# Altium integrated library STMicroelectronics Power Management DC-DC Conversion.IntLib: 186 symbols (part 2 of 4)
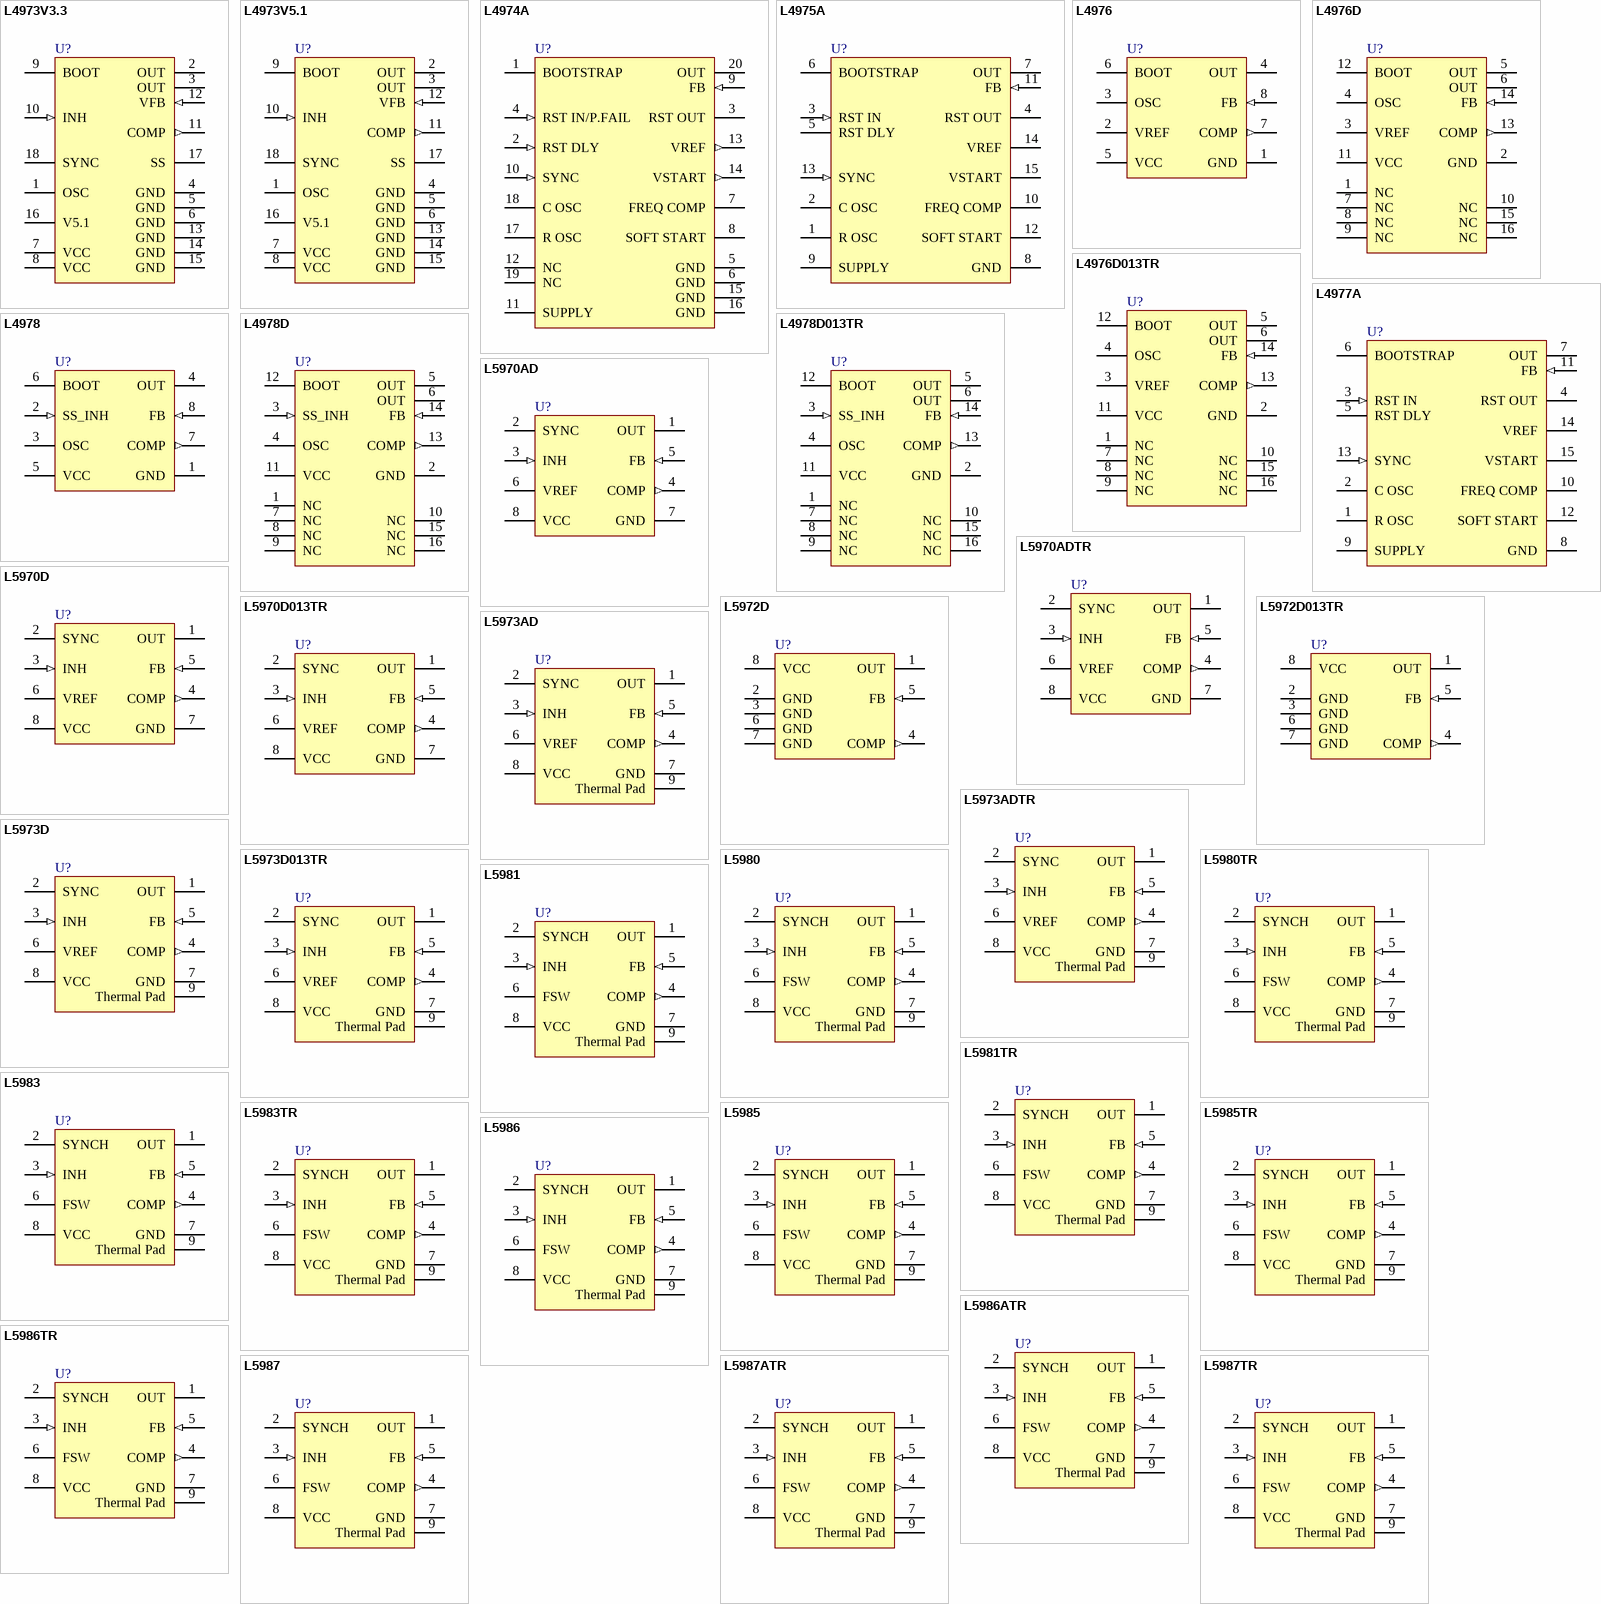
[diagram p8: symbols L4973V3.3 to L5987TR]

## L5985TR
designator U?
Up to 2 A step down switching regulator, 8-Pin VFQFPN, Tape and Reel; DatasheetVersion: Jun-2009; PackageVersion: 2009; PackageReference: VFQFPN8; PackageDescription: 8-Pin VFQFPN, 3 x 3 x 1.08 mm Body, 0.5 mm Pitch, Exposed Pad; ComponentLink1Description: Manufacturer URL; ComponentLink1URL: http://www.st.com; ComponentLink2Description: Datasheet; ComponentLink2URL: http://www.st.com/internet/com/TECHNICAL_RESOURCES/TECHNICAL_LITERATURE/DATASHEET/CD00148435.pdf
footprint VFQFPN8_N (SON, 8-Leads, Body 3x3mm, Pitch 0.5mm, Thermal Pad 2.35x1.6mm, IPC Medium Density)
footprint VFQFPN8_L (SON, 8-Leads, Body 3x3mm, Pitch 0.5mm, Thermal Pad 2.35x1.6mm, IPC High Density)
footprint VFQFPN8_M (SON, 8-Leads, Body 3x3mm, Pitch 0.5mm, Thermal Pad 2.35x1.6mm, IPC Low Density)
pins: 1 OUT (power), 2 SYNCH, 3 INH (in), 4 COMP (out), 5 FB (in), 6 FSW, 7 GND (power), 8 VCC (power), 9 Thermal Pad (power)

## L5986
designator U?
Up to 2.5 A step down switching regulator, 8-Pin VFQFPN, Tube; DatasheetVersion: Nov-2010; PackageVersion: 2009; PackageReference: VFQFPN8; PackageDescription: 8-Pin VFQFPN, 3 x 3 x 1.08 mm Body, 0.5 mm Pitch, Exposed Pad; ComponentLink1Description: Manufacturer URL; ComponentLink1URL: http://www.st.com; ComponentLink2Description: Datasheet; ComponentLink2URL: http://www.st.com/internet/com/TECHNICAL_RESOURCES/TECHNICAL_LITERATURE/DATASHEET/CD00208453.pdf
footprint VFQFPN8_N (SON, 8-Leads, Body 3x3mm, Pitch 0.5mm, Thermal Pad 2.35x1.6mm, IPC Medium Density)
footprint VFQFPN8_L (SON, 8-Leads, Body 3x3mm, Pitch 0.5mm, Thermal Pad 2.35x1.6mm, IPC High Density)
footprint VFQFPN8_M (SON, 8-Leads, Body 3x3mm, Pitch 0.5mm, Thermal Pad 2.35x1.6mm, IPC Low Density)
pins: 1 OUT (power), 2 SYNCH, 3 INH (in), 4 COMP (out), 5 FB (in), 6 FSW, 7 GND (power), 8 VCC (power), 9 Thermal Pad (power)

## L5986ATR
designator U?
Up to 2.5 A step down switching regulator, 8-Pin HSOP, Tape and Reel; DatasheetVersion: Nov-2010; PackageVersion: 2007; PackageReference: HSO-8; PackageDescription: 8-Pin Small Outline Integrated Circuit 1.27 mm Pitch; ComponentLink1Description: Manufacturer URL; ComponentLink1URL: http://www.st.com; ComponentLink2Description: Datasheet; ComponentLink2URL: http://www.st.com/internet/com/TECHNICAL_RESOURCES/TECHNICAL_LITERATURE/DATASHEET/CD00208453.pdf
footprint HSO-8_N (SOIC, 8-Leads, Body 4.9x3.9mm, Pitch 1.27mm, Thermal Pad, IPC Medium Density)
footprint HSO-8_L (SOIC, 8-Leads, Body 4.9x3.9mm, Pitch 1.27mm, Thermal Pad, IPC High Density)
footprint HSO-8_M (SOIC, 8-Leads, Body 4.9x3.9mm, Pitch 1.27mm, Thermal Pad, IPC Low Density)
pins: 1 OUT (power), 2 SYNCH, 3 INH (in), 4 COMP (out), 5 FB (in), 6 FSW, 7 GND (power), 8 VCC (power), 9 Thermal Pad (power)

## L5986TR
designator U?
Up to 2.5 A step down switching regulator, 8-Pin VFQFPN, Tape and Reel; DatasheetVersion: Nov-2010; PackageVersion: 2009; PackageReference: VFQFPN8; PackageDescription: 8-Pin VFQFPN, 3 x 3 x 1.08 mm Body, 0.5 mm Pitch, Exposed Pad; ComponentLink1Description: Manufacturer URL; ComponentLink1URL: http://www.st.com; ComponentLink2Description: Datasheet; ComponentLink2URL: http://www.st.com/internet/com/TECHNICAL_RESOURCES/TECHNICAL_LITERATURE/DATASHEET/CD00208453.pdf
footprint VFQFPN8_N (SON, 8-Leads, Body 3x3mm, Pitch 0.5mm, Thermal Pad 2.35x1.6mm, IPC Medium Density)
footprint VFQFPN8_L (SON, 8-Leads, Body 3x3mm, Pitch 0.5mm, Thermal Pad 2.35x1.6mm, IPC High Density)
footprint VFQFPN8_M (SON, 8-Leads, Body 3x3mm, Pitch 0.5mm, Thermal Pad 2.35x1.6mm, IPC Low Density)
pins: 1 OUT (power), 2 SYNCH, 3 INH (in), 4 COMP (out), 5 FB (in), 6 FSW, 7 GND (power), 8 VCC (power), 9 Thermal Pad (power)

## L5987
designator U?
Up to 3 A step down switching regulator, 8-Pin VFQFPN, Tube; DatasheetVersion: Jun-2009; PackageVersion: 2009; PackageReference: VFQFPN8; PackageDescription: 8-Pin VFQFPN, 3 x 3 x 1.08 mm Body, 0.5 mm Pitch, Exposed Pad; ComponentLink1Description: Manufacturer URL; ComponentLink1URL: http://www.st.com; ComponentLink2Description: Datasheet; ComponentLink2URL: http://www.st.com/internet/com/TECHNICAL_RESOURCES/TECHNICAL_LITERATURE/DATASHEET/CD00208518.pdf
footprint VFQFPN8_N (SON, 8-Leads, Body 3x3mm, Pitch 0.5mm, Thermal Pad 2.35x1.6mm, IPC Medium Density)
footprint VFQFPN8_L (SON, 8-Leads, Body 3x3mm, Pitch 0.5mm, Thermal Pad 2.35x1.6mm, IPC High Density)
footprint VFQFPN8_M (SON, 8-Leads, Body 3x3mm, Pitch 0.5mm, Thermal Pad 2.35x1.6mm, IPC Low Density)
pins: 1 OUT (power), 2 SYNCH, 3 INH (in), 4 COMP (out), 5 FB (in), 6 FSW, 7 GND (power), 8 VCC (power), 9 Thermal Pad (power)

## L5987ATR
designator U?
Up to 3 A step down switching regulator, 8-Pin HSOP, Tape and Reel; DatasheetVersion: Jun-2009; PackageVersion: 2007; PackageReference: HSO-8; PackageDescription: 8-Pin Small Outline Integrated Circuit 1.27 mm Pitch; ComponentLink1Description: Manufacturer URL; ComponentLink1URL: http://www.st.com; ComponentLink2Description: Datasheet; ComponentLink2URL: http://www.st.com/internet/com/TECHNICAL_RESOURCES/TECHNICAL_LITERATURE/DATASHEET/CD00208518.pdf
footprint HSO-8_N (SOIC, 8-Leads, Body 4.9x3.9mm, Pitch 1.27mm, Thermal Pad, IPC Medium Density)
footprint HSO-8_L (SOIC, 8-Leads, Body 4.9x3.9mm, Pitch 1.27mm, Thermal Pad, IPC High Density)
footprint HSO-8_M (SOIC, 8-Leads, Body 4.9x3.9mm, Pitch 1.27mm, Thermal Pad, IPC Low Density)
pins: 1 OUT (power), 2 SYNCH, 3 INH (in), 4 COMP (out), 5 FB (in), 6 FSW, 7 GND (power), 8 VCC (power), 9 Thermal Pad (power)

## L5987TR
designator U?
Up to 3 A step down switching regulator, 8-Pin VFQFPN, Tape and Reel; DatasheetVersion: Jun-2009; PackageVersion: 2009; PackageReference: VFQFPN8; PackageDescription: 8-Pin VFQFPN, 3 x 3 x 1.08 mm Body, 0.5 mm Pitch, Exposed Pad; ComponentLink1Description: Manufacturer URL; ComponentLink1URL: http://www.st.com; ComponentLink2Description: Datasheet; ComponentLink2URL: http://www.st.com/internet/com/TECHNICAL_RESOURCES/TECHNICAL_LITERATURE/DATASHEET/CD00208518.pdf
footprint VFQFPN8_N (SON, 8-Leads, Body 3x3mm, Pitch 0.5mm, Thermal Pad 2.35x1.6mm, IPC Medium Density)
footprint VFQFPN8_L (SON, 8-Leads, Body 3x3mm, Pitch 0.5mm, Thermal Pad 2.35x1.6mm, IPC High Density)
footprint VFQFPN8_M (SON, 8-Leads, Body 3x3mm, Pitch 0.5mm, Thermal Pad 2.35x1.6mm, IPC Low Density)
pins: 1 OUT (power), 2 SYNCH, 3 INH (in), 4 COMP (out), 5 FB (in), 6 FSW, 7 GND (power), 8 VCC (power), 9 Thermal Pad (power)

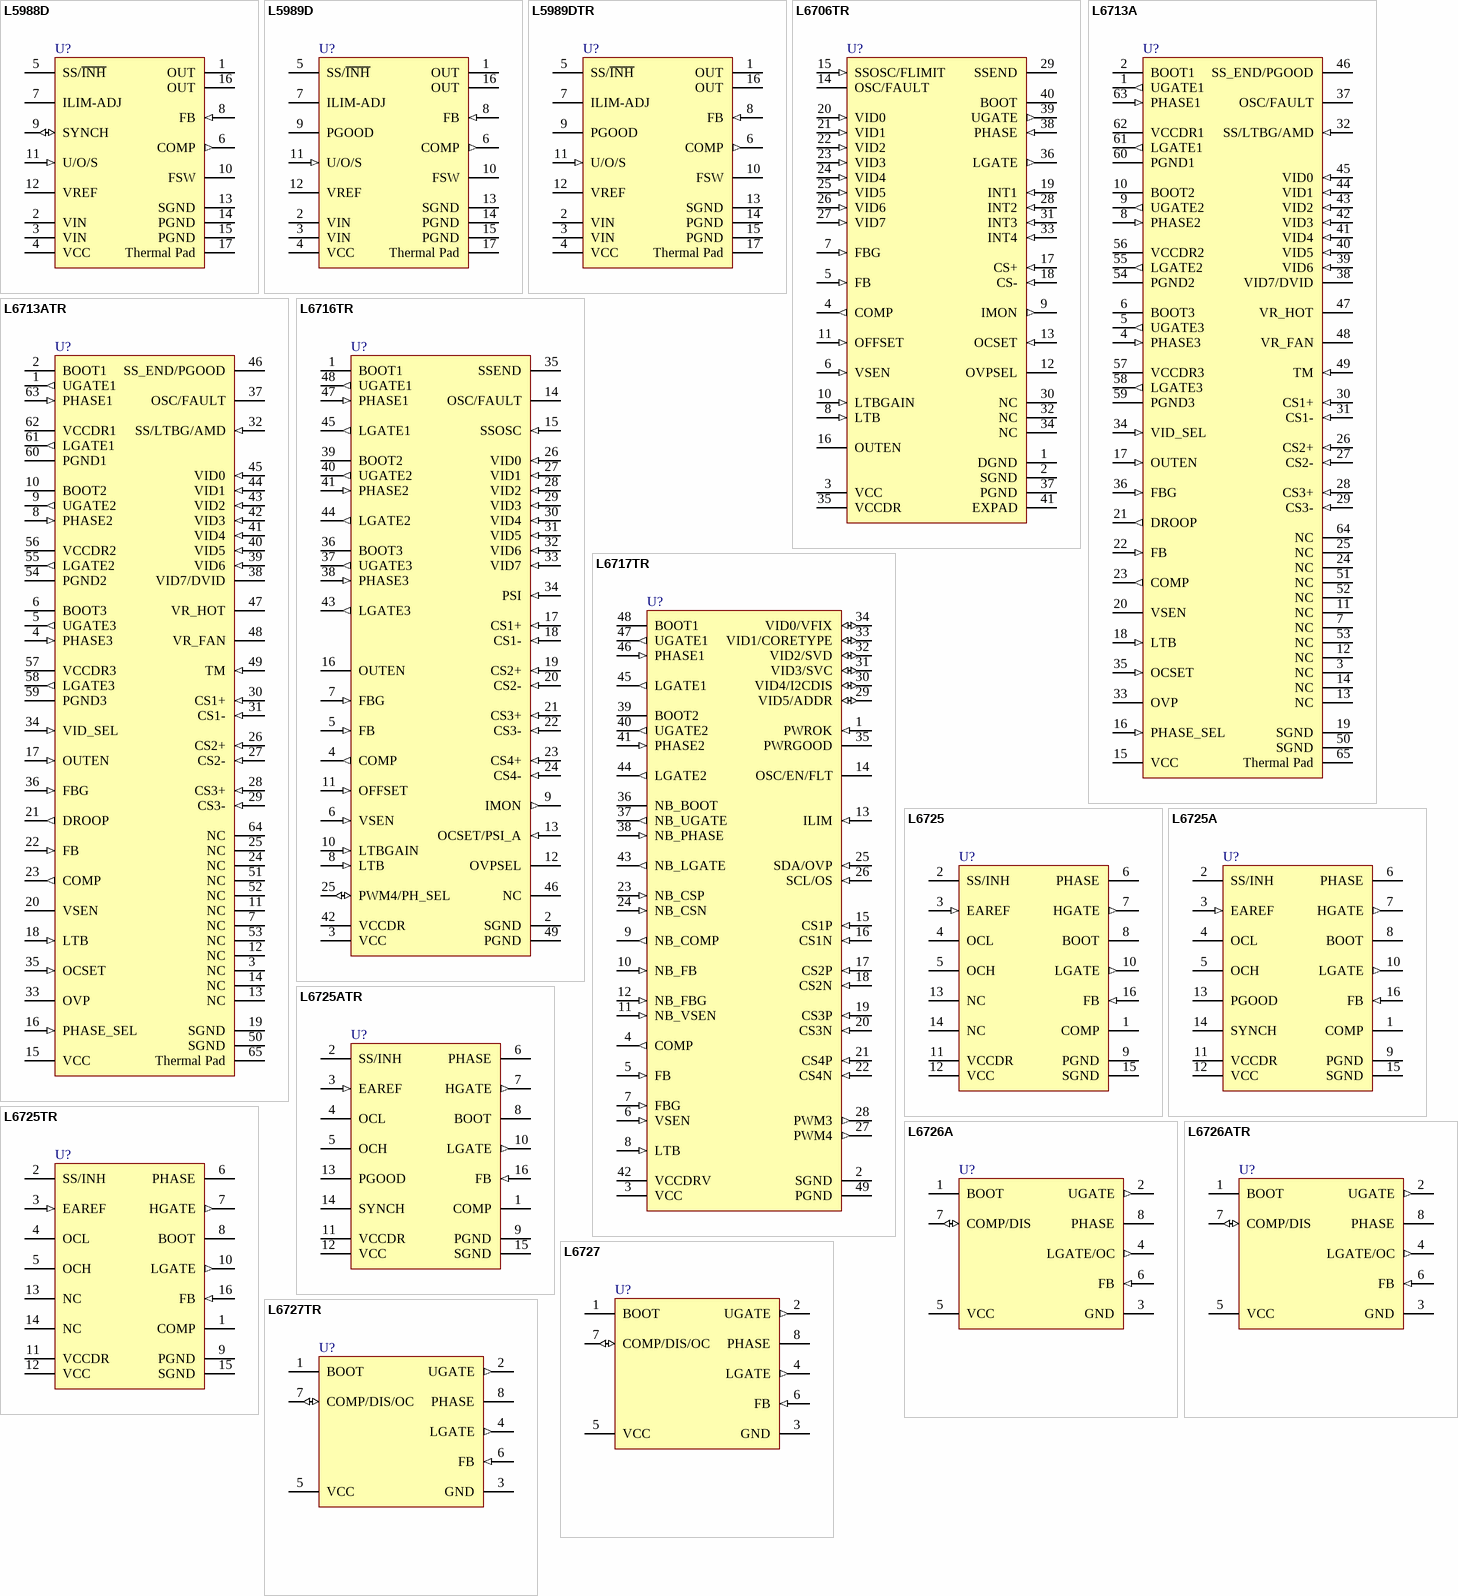
[diagram p2: symbols L5988D to L6727TR]

## L5988D
designator U?
4 A continuous (more than 5 A pulsed) step-down switching regulator with synchronous rectification, 16-Pin HTSSOP; DatasheetVersion: Jan-2010; PackageVersion: 2008; PackageReference: HTSSOP16; PackageDescription: 16-Pin Thin Small Outline Package 5 x 4.4 mm Body ,0.65 mm Pitch, 3 x 3 mm Exposed Pad; ComponentLink1Description: Manufacturer URL; ComponentLink1URL: http://www.st.com; ComponentLink2Description: Datasheet; ComponentLink2URL: http://www.st.com/internet/com/TECHNICAL_RESOURCES/TECHNICAL_LITERATURE/DATASHEET/CD00222887.pdf
footprint HTSSOP16_N (TSOP, 16-Leads, Body 5x4.4mm, Pitch 0.65mm, Thermal Pad 3x3mm, IPC Medium Density)
footprint HTSSOP16_L (TSOP, 16-Leads, Body 5x4.4mm, Pitch 0.65mm, Thermal Pad 3x3mm, IPC High Density)
footprint HTSSOP16_M (TSOP, 16-Leads, Body 5x4.4mm, Pitch 0.65mm, Thermal Pad 3x3mm, IPC Low Density)
pins: 1 OUT (power), 2 VIN (power), 3 VIN (power), 4 VCC (power), 5 SS/~{INH}, 6 COMP (out), 7 ILIM-ADJ, 8 FB (in), 9 SYNCH (io), 10 FSW, 11 U/O/S (in), 12 VREF (power), 13 SGND (power), 14 PGND (power), 15 PGND (power), 16 OUT (power), 17 Thermal Pad (power)

## L5989D
designator U?
4 A continuous (more than 5 A pulsed) step-down switching regulator with synchronous rectification, 16-Pin HTSSOP, Tube; DatasheetVersion: Jan-2010; PackageVersion: 2008; PackageReference: HTSSOP16; PackageDescription: 16-Pin Thin Small Outline Package 5 x 4.4 mm Body ,0.65 mm Pitch, 3 x 3 mm Exposed Pad; ComponentLink1Description: Manufacturer URL; ComponentLink1URL: http://www.st.com; ComponentLink2Description: Datasheet; ComponentLink2URL: http://www.st.com/internet/com/TECHNICAL_RESOURCES/TECHNICAL_LITERATURE/DATASHEET/CD00236726.pdf
footprint HTSSOP16_N (TSOP, 16-Leads, Body 5x4.4mm, Pitch 0.65mm, Thermal Pad 3x3mm, IPC Medium Density)
footprint HTSSOP16_L (TSOP, 16-Leads, Body 5x4.4mm, Pitch 0.65mm, Thermal Pad 3x3mm, IPC High Density)
footprint HTSSOP16_M (TSOP, 16-Leads, Body 5x4.4mm, Pitch 0.65mm, Thermal Pad 3x3mm, IPC Low Density)
pins: 1 OUT (power), 2 VIN (power), 3 VIN (power), 4 VCC (power), 5 SS/~{INH}, 6 COMP (out), 7 ILIM-ADJ, 8 FB (in), 9 PGOOD (oc), 10 FSW, 11 U/O/S (in), 12 VREF (power), 13 SGND (power), 14 PGND (power), 15 PGND (power), 16 OUT (power), 17 Thermal Pad (power)

## L5989DTR
designator U?
4 A continuous (more than 5 A pulsed) step-down switching regulator with synchronous rectification, 16-Pin HTSSOP, Tape and Reel; DatasheetVersion: Jan-2010; PackageVersion: 2008; PackageReference: HTSSOP16; PackageDescription: 16-Pin Thin Small Outline Package 5 x 4.4 mm Body ,0.65 mm Pitch, 3 x 3 mm Exposed Pad; ComponentLink1Description: Manufacturer URL; ComponentLink1URL: http://www.st.com; ComponentLink2Description: Datasheet; ComponentLink2URL: http://www.st.com/internet/com/TECHNICAL_RESOURCES/TECHNICAL_LITERATURE/DATASHEET/CD00236726.pdf
footprint HTSSOP16_N (TSOP, 16-Leads, Body 5x4.4mm, Pitch 0.65mm, Thermal Pad 3x3mm, IPC Medium Density)
footprint HTSSOP16_L (TSOP, 16-Leads, Body 5x4.4mm, Pitch 0.65mm, Thermal Pad 3x3mm, IPC High Density)
footprint HTSSOP16_M (TSOP, 16-Leads, Body 5x4.4mm, Pitch 0.65mm, Thermal Pad 3x3mm, IPC Low Density)
pins: 1 OUT (power), 2 VIN (power), 3 VIN (power), 4 VCC (power), 5 SS/~{INH}, 6 COMP (out), 7 ILIM-ADJ, 8 FB (in), 9 PGOOD (oc), 10 FSW, 11 U/O/S (in), 12 VREF (power), 13 SGND (power), 14 PGND (power), 15 PGND (power), 16 OUT (power), 17 Thermal Pad (power)

## L6706TR
designator U?
VR11.1 single phase controller with integrated driver, 40-Pin VFQFPN, Tape and Reel; DatasheetVersion: Jan-2010; PackageVersion: 2008; PackageReference: VFQFPN-40; PackageDescription: 40-Pin Very Fine Quad Flat Package No-Lead, 6 x 6 x 1 mm Body, 0.5 mm Pitch, Exposed Pad; ComponentLink1Description: Manufacturer URL; ComponentLink1URL: http://www.st.com; ComponentLink2Description: Datasheet; ComponentLink2URL: http://www.st.com/internet/com/TECHNICAL_RESOURCES/TECHNICAL_LITERATURE/DATASHEET/CD00234572.pdf
footprint VFQFPN-40_N (QFN, 40-Leads, Body 6x6mm, Pitch 0.5mm, Thermal Pad 4.1x4.1mm, IPC Medium Density)
footprint VFQFPN-40_L (QFN, 40-Leads, Body 6x6mm, Pitch 0.5mm, Thermal Pad 4.1x4.1mm, IPC High Density)
footprint VFQFPN-40_M (QFN, 40-Leads, Body 6x6mm, Pitch 0.5mm, Thermal Pad 4.1x4.1mm, IPC Low Density)
pins: 1 DGND (power), 2 SGND (power), 3 VCC (power), 4 COMP (out), 5 FB (in), 6 VSEN (in), 7 FBG (in), 8 LTB (in), 9 IMON (out), 10 LTBGAIN (in), 11 OFFSET (in), 12 OVPSEL, 13 OCSET (in), 14 OSC/FAULT, 15 SSOSC/FLIMIT (in), 16 OUTEN, 17 CS+ (in), 18 CS- (in), 19 INT1 (in), 20 VID0 (in), 21 VID1 (in), 22 VID2 (in), 23 VID3 (in), 24 VID4 (in), 25 VID5 (in), 26 VID6 (in), 27 VID7 (in), 28 INT2 (in), 29 SSEND (oc), 30 NC, 31 INT3 (in), 32 NC, 33 INT4 (in), 34 NC, 35 VCCDR (power), 36 LGATE (out), 37 PGND (power), 38 PHASE (in), 39 UGATE (out), 40 BOOT (power), 41 EXPAD (power)

## L6713A
designator U?
2/3 phase controller with embedded drivers for Intel VR10, VR11 and AMD 6 bit CPUs, 64-Pin TQFP, Tube; DatasheetVersion: Aug-2008; PackageVersion: 2008; PackageReference: TQFP64-EP; PackageDescription: 64-Pin Thin Quad Flat Pack, 10 x 10 mm Body, 0.5 mm Pitch, 4.8 x 4.8 mm Exposed Pad; ComponentLink1Description: Manufacturer URL; ComponentLink1URL: http://www.st.com; ComponentLink2Description: Datasheet; ComponentLink2URL: http://www.st.com/internet/com/TECHNICAL_RESOURCES/TECHNICAL_LITERATURE/DATASHEET/CD00095768.pdf
footprint TQFP64-EP_N (Thin QFP, 64-Leads, Body 10x10mm, Pitch 0.5mm, Thermal Pad 4.8x4.8mm, IPC Medium Density)
footprint TQFP64-EP_L (Thin QFP, 64-Leads, Body 10x10mm, Pitch 0.5mm, Thermal Pad 4.8x4.8mm, IPC High Density)
footprint TQFP64-EP_M (Thin QFP, 64-Leads, Body 10x10mm, Pitch 0.5mm, Thermal Pad 4.8x4.8mm, IPC Low Density)
pins: 1 UGATE1 (out), 2 BOOT1 (power), 3 NC, 4 PHASE3 (in), 5 UGATE3 (out), 6 BOOT3 (power), 7 NC, 8 PHASE2 (in), 9 UGATE2 (out), 10 BOOT2 (power), 11 NC, 12 NC, 13 NC, 14 NC, 15 VCC (power), 16 PHASE_SEL (in), 17 OUTEN (in), 18 LTB (in), 19 SGND (power), 20 VSEN, 21 DROOP (out), 22 FB (in), 23 COMP (out), 24 NC, 25 NC, 26 CS2+ (in), 27 CS2- (in), 28 CS3+ (in), 29 CS3- (in), 30 CS1+ (in), 31 CS1- (in), 32 SS/LTBG/AMD (in), 33 OVP, 34 VID_SEL (in), 35 OCSET (in), 36 FBG (in), 37 OSC/FAULT, 38 VID7/DVID, 39 VID6 (in), 40 VID5 (in), 41 VID4 (in), 42 VID3 (in), 43 VID2 (in), 44 VID1 (in), 45 VID0 (in), 46 SS_END/PGOOD (oc), 47 VR_HOT (oc), 48 VR_FAN (oc), 49 TM (in), 50 SGND (power), 51 NC, 52 NC, 53 NC, 54 PGND2 (power), 55 LGATE2 (out), 56 VCCDR2 (power), 57 VCCDR3 (power), 58 LGATE3 (out), 59 PGND3 (power), 60 PGND1 (power), 61 LGATE1 (out), 62 VCCDR1 (power), 63 PHASE1 (in), 64 NC, 65 Thermal Pad (power)

## L6713ATR
designator U?
2/3 phase controller with embedded drivers for Intel VR10, VR11 and AMD 6 bit CPUs, 64-Pin TQFP, Tape and Reel; DatasheetVersion: Aug-2008; PackageVersion: 2008; PackageReference: TQFP64-EP; PackageDescription: 64-Pin Thin Quad Flat Pack, 10 x 10 mm Body, 0.5 mm Pitch, 4.8 x 4.8 mm Exposed Pad; ComponentLink1Description: Manufacturer URL; ComponentLink1URL: http://www.st.com; ComponentLink2Description: Datasheet; ComponentLink2URL: http://www.st.com/internet/com/TECHNICAL_RESOURCES/TECHNICAL_LITERATURE/DATASHEET/CD00095768.pdf
footprint TQFP64-EP_N (Thin QFP, 64-Leads, Body 10x10mm, Pitch 0.5mm, Thermal Pad 4.8x4.8mm, IPC Medium Density)
footprint TQFP64-EP_L (Thin QFP, 64-Leads, Body 10x10mm, Pitch 0.5mm, Thermal Pad 4.8x4.8mm, IPC High Density)
footprint TQFP64-EP_M (Thin QFP, 64-Leads, Body 10x10mm, Pitch 0.5mm, Thermal Pad 4.8x4.8mm, IPC Low Density)
pins: 1 UGATE1 (out), 2 BOOT1 (power), 3 NC, 4 PHASE3 (in), 5 UGATE3 (out), 6 BOOT3 (power), 7 NC, 8 PHASE2 (in), 9 UGATE2 (out), 10 BOOT2 (power), 11 NC, 12 NC, 13 NC, 14 NC, 15 VCC (power), 16 PHASE_SEL (in), 17 OUTEN (in), 18 LTB (in), 19 SGND (power), 20 VSEN, 21 DROOP (out), 22 FB (in), 23 COMP (out), 24 NC, 25 NC, 26 CS2+ (in), 27 CS2- (in), 28 CS3+ (in), 29 CS3- (in), 30 CS1+ (in), 31 CS1- (in), 32 SS/LTBG/AMD (in), 33 OVP, 34 VID_SEL (in), 35 OCSET (in), 36 FBG (in), 37 OSC/FAULT, 38 VID7/DVID, 39 VID6 (in), 40 VID5 (in), 41 VID4 (in), 42 VID3 (in), 43 VID2 (in), 44 VID1 (in), 45 VID0 (in), 46 SS_END/PGOOD (oc), 47 VR_HOT (oc), 48 VR_FAN (oc), 49 TM (in), 50 SGND (power), 51 NC, 52 NC, 53 NC, 54 PGND2 (power), 55 LGATE2 (out), 56 VCCDR2 (power), 57 VCCDR3 (power), 58 LGATE3 (out), 59 PGND3 (power), 60 PGND1 (power), 61 LGATE1 (out), 62 VCCDR1 (power), 63 PHASE1 (in), 64 NC, 65 Thermal Pad (power)

## L6716TR
designator U?
2/3/4 phase controller with embedded drivers for Intel VR11.1, 48-Pin VFQFPN, Tape and Reel; DatasheetVersion: Jan-2010; PackageVersion: 2010; PackageReference: VFQFPN-48(7x7); PackageDescription: 48-Pin Very Fine Quad Flat Package No-Lead, 7 x 7 x 1 mm Body, 0.5 mm Pitch, Exposed Pad; ComponentLink1Description: Manufacturer URL; ComponentLink1URL: http://www.st.com; ComponentLink2Description: Datasheet; ComponentLink2URL: http://www.st.com/internet/com/TECHNICAL_RESOURCES/TECHNICAL_LITERATURE/DATASHEET/CD00187614.pdf
footprint VFQFPN-48(7x7)_N (QFN, 48-Leads, Body 7x7mm, Pitch 0.5mm, Thermal Pad 5.15x5.15mm, IPC Medium Density)
footprint VFQFPN-48(7x7)_L (QFN, 48-Leads, Body 7x7mm, Pitch 0.5mm, Thermal Pad 5.15x5.15mm, IPC High Density)
footprint VFQFPN-48(7x7)_M (QFN, 48-Leads, Body 7x7mm, Pitch 0.5mm, Thermal Pad 5.15x5.15mm, IPC Low Density)
pins: 1 BOOT1 (power), 2 SGND (power), 3 VCC (power), 4 COMP (out), 5 FB (in), 6 VSEN (in), 7 FBG (in), 8 LTB (in), 9 IMON (out), 10 LTBGAIN (in), 11 OFFSET (in), 12 OVPSEL, 13 OCSET/PSI_A (in), 14 OSC/FAULT, 15 SSOSC (in), 16 OUTEN, 17 CS1+ (in), 18 CS1- (in), 19 CS2+ (in), 20 CS2- (in), 21 CS3+ (in), 22 CS3- (in), 23 CS4+ (in), 24 CS4- (in), 25 PWM4/PH_SEL (io), 26 VID0 (in), 27 VID1 (in), 28 VID2 (in), 29 VID3 (in), 30 VID4 (in), 31 VID5 (in), 32 VID6 (in), 33 VID7 (in), 34 PSI (in), 35 SSEND (oc), 36 BOOT3 (power), 37 UGATE3 (out), 38 PHASE3 (in), 39 BOOT2 (power), 40 UGATE2 (out), 41 PHASE2 (in), 42 VCCDR (power), 43 LGATE3 (out), 44 LGATE2 (out), 45 LGATE1 (out), 46 NC, 47 PHASE1 (in), 48 UGATE1 (out), 49 PGND (power)

## L6717TR
designator U?
High-Efficiency Hybrid AM2r2 Controller with I2C Interface and Embedded Drivers, 48-Pin VFQFPN, Tape and Reel; DatasheetVersion: Mar-2010; PackageVersion: 2010; PackageReference: VFQFPN-48(7x7); PackageDescription: 48-Pin Very Fine Quad Flat Package No-Lead, 7 x 7 x 1 mm Body, 0.5 mm Pitch, Exposed Pad; ComponentLink1Description: Manufacturer URL; ComponentLink1URL: http://www.st.com; ComponentLink2Description: Datasheet; ComponentLink2URL: http://www.st.com/internet/com/TECHNICAL_RESOURCES/TECHNICAL_LITERATURE/DATASHEET/CD00269198.pdf
footprint VFQFPN-48(7x7)_N (QFN, 48-Leads, Body 7x7mm, Pitch 0.5mm, Thermal Pad 5.15x5.15mm, IPC Medium Density)
footprint VFQFPN-48(7x7)_L (QFN, 48-Leads, Body 7x7mm, Pitch 0.5mm, Thermal Pad 5.15x5.15mm, IPC High Density)
footprint VFQFPN-48(7x7)_M (QFN, 48-Leads, Body 7x7mm, Pitch 0.5mm, Thermal Pad 5.15x5.15mm, IPC Low Density)
pins: 1 PWROK (in), 2 SGND (power), 3 VCC (power), 4 COMP (out), 5 FB (in), 6 VSEN (in), 7 FBG (in), 8 LTB (in), 9 NB_COMP (out), 10 NB_FB (in), 11 NB_VSEN (in), 12 NB_FBG (in), 13 ILIM (in), 14 OSC/EN/FLT, 15 CS1P (in), 16 CS1N (in), 17 CS2P (in), 18 CS2N (in), 19 CS3P (in), 20 CS3N (in), 21 CS4P (in), 22 CS4N (in), 23 NB_CSP (in), 24 NB_CSN (in), 25 SDA/OVP (in), 26 SCL/OS (in), 27 PWM4 (out), 28 PWM3 (out), 29 VID5/ADDR (io), 30 VID4/I2CDIS (io), 31 VID3/SVC (io), 32 VID2/SVD (io), 33 VID1/CORETYPE (io), 34 VID0/VFIX (io), 35 PWRGOOD (oc), 36 NB_BOOT (power), 37 NB_UGATE (out), 38 NB_PHASE (in), 39 BOOT2 (power), 40 UGATE2 (out), 41 PHASE2 (in), 42 VCCDRV (power), 43 NB_LGATE (out), 44 LGATE2 (out), 45 LGATE1 (out), 46 PHASE1 (in), 47 UGATE1 (out), 48 BOOT1 (power), 49 PGND (power)

## L6725
designator U?
Voltage mode PWM controller with bootstrap anti-discharging system, 16-Pin SOIC; DatasheetVersion: Jun-2007; PackageVersion: ver2.0, 2003; PackageReference: SO16; PackageDescription: 16-Pin Small Outline Integrated Circuit 1.27 mm Pitch; Code_IPC: SOIC127P600-16; ComponentLink1Description: Manufacturer URL; ComponentLink1URL: http://www.st.com; ComponentLink2Description: Datasheet; ComponentLink2URL: http://www.st.com/internet/com/TECHNICAL_RESOURCES/TECHNICAL_LITERATURE/DATASHEET/CD00081296.pdf
footprint SO16_N (SOIC, 16-Leads, Body 9.9x3.9mm, Pitch 1.27mm, IPC Medium Density)
footprint SO16_L (SOIC, 16-Leads, Body 9.9x3.9mm, Pitch 1.27mm, IPC High Density)
footprint SO16_M (SOIC, 16-Leads, Body 9.9x3.9mm, Pitch 1.27mm, IPC Low Density)
pins: 1 COMP, 2 SS/INH, 3 EAREF (in), 4 OCL, 5 OCH, 6 PHASE, 7 HGATE (out), 8 BOOT, 9 PGND (power), 10 LGATE (out), 11 VCCDR (power), 12 VCC (power), 13 NC, 14 NC, 15 SGND (power), 16 FB (in)

## L6725A
designator U?
Voltage mode PWM controller with bootstrap anti-discharging system, 16-Pin SOIC; DatasheetVersion: Jun-2007; PackageVersion: ver2.0, 2003; PackageReference: SO16; PackageDescription: 16-Pin Small Outline Integrated Circuit 1.27 mm Pitch; Code_IPC: SOIC127P600-16; ComponentLink1Description: Manufacturer URL; ComponentLink1URL: http://www.st.com; ComponentLink2Description: Datasheet; ComponentLink2URL: http://www.st.com/internet/com/TECHNICAL_RESOURCES/TECHNICAL_LITERATURE/DATASHEET/CD00081296.pdf
footprint SO16_N (SOIC, 16-Leads, Body 9.9x3.9mm, Pitch 1.27mm, IPC Medium Density)
footprint SO16_L (SOIC, 16-Leads, Body 9.9x3.9mm, Pitch 1.27mm, IPC High Density)
footprint SO16_M (SOIC, 16-Leads, Body 9.9x3.9mm, Pitch 1.27mm, IPC Low Density)
pins: 1 COMP, 2 SS/INH, 3 EAREF (in), 4 OCL, 5 OCH, 6 PHASE, 7 HGATE (out), 8 BOOT, 9 PGND (power), 10 LGATE (out), 11 VCCDR (power), 12 VCC (power), 13 PGOOD (oc), 14 SYNCH, 15 SGND (power), 16 FB (in)

## L6725ATR
designator U?
Voltage mode PWM controller with bootstrap anti-discharging system, 16-Pin SOIC, Tape and Reel; DatasheetVersion: Jun-2007; PackageVersion: ver2.0, 2003; PackageReference: SO16; PackageDescription: 16-Pin Small Outline Integrated Circuit 1.27 mm Pitch; Code_IPC: SOIC127P600-16; ComponentLink1Description: Manufacturer URL; ComponentLink1URL: http://www.st.com; ComponentLink2Description: Datasheet; ComponentLink2URL: http://www.st.com/internet/com/TECHNICAL_RESOURCES/TECHNICAL_LITERATURE/DATASHEET/CD00081296.pdf
footprint SO16_N (SOIC, 16-Leads, Body 9.9x3.9mm, Pitch 1.27mm, IPC Medium Density)
footprint SO16_L (SOIC, 16-Leads, Body 9.9x3.9mm, Pitch 1.27mm, IPC High Density)
footprint SO16_M (SOIC, 16-Leads, Body 9.9x3.9mm, Pitch 1.27mm, IPC Low Density)
pins: 1 COMP, 2 SS/INH, 3 EAREF (in), 4 OCL, 5 OCH, 6 PHASE, 7 HGATE (out), 8 BOOT, 9 PGND (power), 10 LGATE (out), 11 VCCDR (power), 12 VCC (power), 13 PGOOD (oc), 14 SYNCH, 15 SGND (power), 16 FB (in)

## L6725TR
designator U?
Voltage mode PWM controller with bootstrap anti-discharging system, 16-Pin SOIC, Tape and Reel; DatasheetVersion: Jun-2007; PackageVersion: ver2.0, 2003; PackageReference: SO16; PackageDescription: 16-Pin Small Outline Integrated Circuit 1.27 mm Pitch; Code_IPC: SOIC127P600-16; ComponentLink1Description: Manufacturer URL; ComponentLink1URL: http://www.st.com; ComponentLink2Description: Datasheet; ComponentLink2URL: http://www.st.com/internet/com/TECHNICAL_RESOURCES/TECHNICAL_LITERATURE/DATASHEET/CD00081296.pdf
footprint SO16_N (SOIC, 16-Leads, Body 9.9x3.9mm, Pitch 1.27mm, IPC Medium Density)
footprint SO16_L (SOIC, 16-Leads, Body 9.9x3.9mm, Pitch 1.27mm, IPC High Density)
footprint SO16_M (SOIC, 16-Leads, Body 9.9x3.9mm, Pitch 1.27mm, IPC Low Density)
pins: 1 COMP, 2 SS/INH, 3 EAREF (in), 4 OCL, 5 OCH, 6 PHASE, 7 HGATE (out), 8 BOOT, 9 PGND (power), 10 LGATE (out), 11 VCCDR (power), 12 VCC (power), 13 NC, 14 NC, 15 SGND (power), 16 FB (in)

## L6726A
designator U?
Single phase PWM controller, 8-Pin SO, Tube; DatasheetVersion: Mar-2010; PackageVersion: Dec-2002; PackageReference: SO8; PackageDescription: 8-Pin Small Outline Integrated Circuit 1.27 mm Pitch; Code_JEDEC: MS-012-AA; Code_IPC: SOIC127P600-8; ComponentLink1Description: Manufacturer URL; ComponentLink1URL: http://www.st.com; ComponentLink2Description: Datasheet; ComponentLink2URL: http://www.st.com/internet/com/TECHNICAL_RESOURCES/TECHNICAL_LITERATURE/DATASHEET/CD00142627.pdf; ComponentLink3Description: Package Specification; ComponentLink3URL: http://www.st.com/internet/com/TECHNICAL_RESOURCES/TECHNICAL_LITERATURE/PACKAGE_INFORMATION/CD00004680.pdf
footprint SO8_N (SOIC, 8-Leads, Body 4.9x3.9mm, Pitch 1.27mm, IPC Medium Density)
footprint SO8_L (SOIC, 8-Leads, Body 4.9x3.9mm, Pitch 1.27mm, IPC High Density)
footprint SO8_M (SOIC, 8-Leads, Body 4.9x3.9mm, Pitch 1.27mm, IPC Low Density)
pins: 1 BOOT (power), 2 UGATE (out), 3 GND (power), 4 LGATE/OC (out), 5 VCC (power), 6 FB (in), 7 COMP/DIS (io), 8 PHASE

## L6726ATR
designator U?
Single phase PWM controller, 8-Pin SO, Tape and Reel; DatasheetVersion: Mar-2010; PackageVersion: Dec-2002; PackageReference: SO8; PackageDescription: 8-Pin Small Outline Integrated Circuit 1.27 mm Pitch; Code_JEDEC: MS-012-AA; Code_IPC: SOIC127P600-8; ComponentLink1Description: Manufacturer URL; ComponentLink1URL: http://www.st.com; ComponentLink2Description: Datasheet; ComponentLink2URL: http://www.st.com/internet/com/TECHNICAL_RESOURCES/TECHNICAL_LITERATURE/DATASHEET/CD00142627.pdf; ComponentLink3Description: Package Specification; ComponentLink3URL: http://www.st.com/internet/com/TECHNICAL_RESOURCES/TECHNICAL_LITERATURE/PACKAGE_INFORMATION/CD00004680.pdf
footprint SO8_N (SOIC, 8-Leads, Body 4.9x3.9mm, Pitch 1.27mm, IPC Medium Density)
footprint SO8_L (SOIC, 8-Leads, Body 4.9x3.9mm, Pitch 1.27mm, IPC High Density)
footprint SO8_M (SOIC, 8-Leads, Body 4.9x3.9mm, Pitch 1.27mm, IPC Low Density)
pins: 1 BOOT (power), 2 UGATE (out), 3 GND (power), 4 LGATE/OC (out), 5 VCC (power), 6 FB (in), 7 COMP/DIS (io), 8 PHASE

## L6727
designator U?
Single phase PWM controller, 8-Pin SO, Tube; DatasheetVersion: Mar-2010; PackageVersion: Dec-2002; PackageReference: SO8; PackageDescription: 8-Pin Small Outline Integrated Circuit 1.27 mm Pitch; Code_JEDEC: MS-012-AA; Code_IPC: SOIC127P600-8; ComponentLink1Description: Manufacturer URL; ComponentLink1URL: http://www.st.com; ComponentLink2Description: Datasheet; ComponentLink2URL: http://www.st.com/internet/com/TECHNICAL_RESOURCES/TECHNICAL_LITERATURE/DATASHEET/CD00146912.pdf; ComponentLink3Description: Package Specification; ComponentLink3URL: http://www.st.com/internet/com/TECHNICAL_RESOURCES/TECHNICAL_LITERATURE/PACKAGE_INFORMATION/CD00004680.pdf
footprint SO8_N (SOIC, 8-Leads, Body 4.9x3.9mm, Pitch 1.27mm, IPC Medium Density)
footprint SO8_L (SOIC, 8-Leads, Body 4.9x3.9mm, Pitch 1.27mm, IPC High Density)
footprint SO8_M (SOIC, 8-Leads, Body 4.9x3.9mm, Pitch 1.27mm, IPC Low Density)
pins: 1 BOOT (power), 2 UGATE (out), 3 GND (power), 4 LGATE (out), 5 VCC (power), 6 FB (in), 7 COMP/DIS/OC (io), 8 PHASE

## L6727TR
designator U?
Single phase PWM controller, 8-Pin SO, Tape and Reel; DatasheetVersion: Mar-2010; PackageVersion: Dec-2002; PackageReference: SO8; PackageDescription: 8-Pin Small Outline Integrated Circuit 1.27 mm Pitch; Code_JEDEC: MS-012-AA; Code_IPC: SOIC127P600-8; ComponentLink1Description: Manufacturer URL; ComponentLink1URL: http://www.st.com; ComponentLink2Description: Datasheet; ComponentLink2URL: http://www.st.com/internet/com/TECHNICAL_RESOURCES/TECHNICAL_LITERATURE/DATASHEET/CD00146912.pdf; ComponentLink3Description: Package Specification; ComponentLink3URL: http://www.st.com/internet/com/TECHNICAL_RESOURCES/TECHNICAL_LITERATURE/PACKAGE_INFORMATION/CD00004680.pdf
footprint SO8_N (SOIC, 8-Leads, Body 4.9x3.9mm, Pitch 1.27mm, IPC Medium Density)
footprint SO8_L (SOIC, 8-Leads, Body 4.9x3.9mm, Pitch 1.27mm, IPC High Density)
footprint SO8_M (SOIC, 8-Leads, Body 4.9x3.9mm, Pitch 1.27mm, IPC Low Density)
pins: 1 BOOT (power), 2 UGATE (out), 3 GND (power), 4 LGATE (out), 5 VCC (power), 6 FB (in), 7 COMP/DIS/OC (io), 8 PHASE

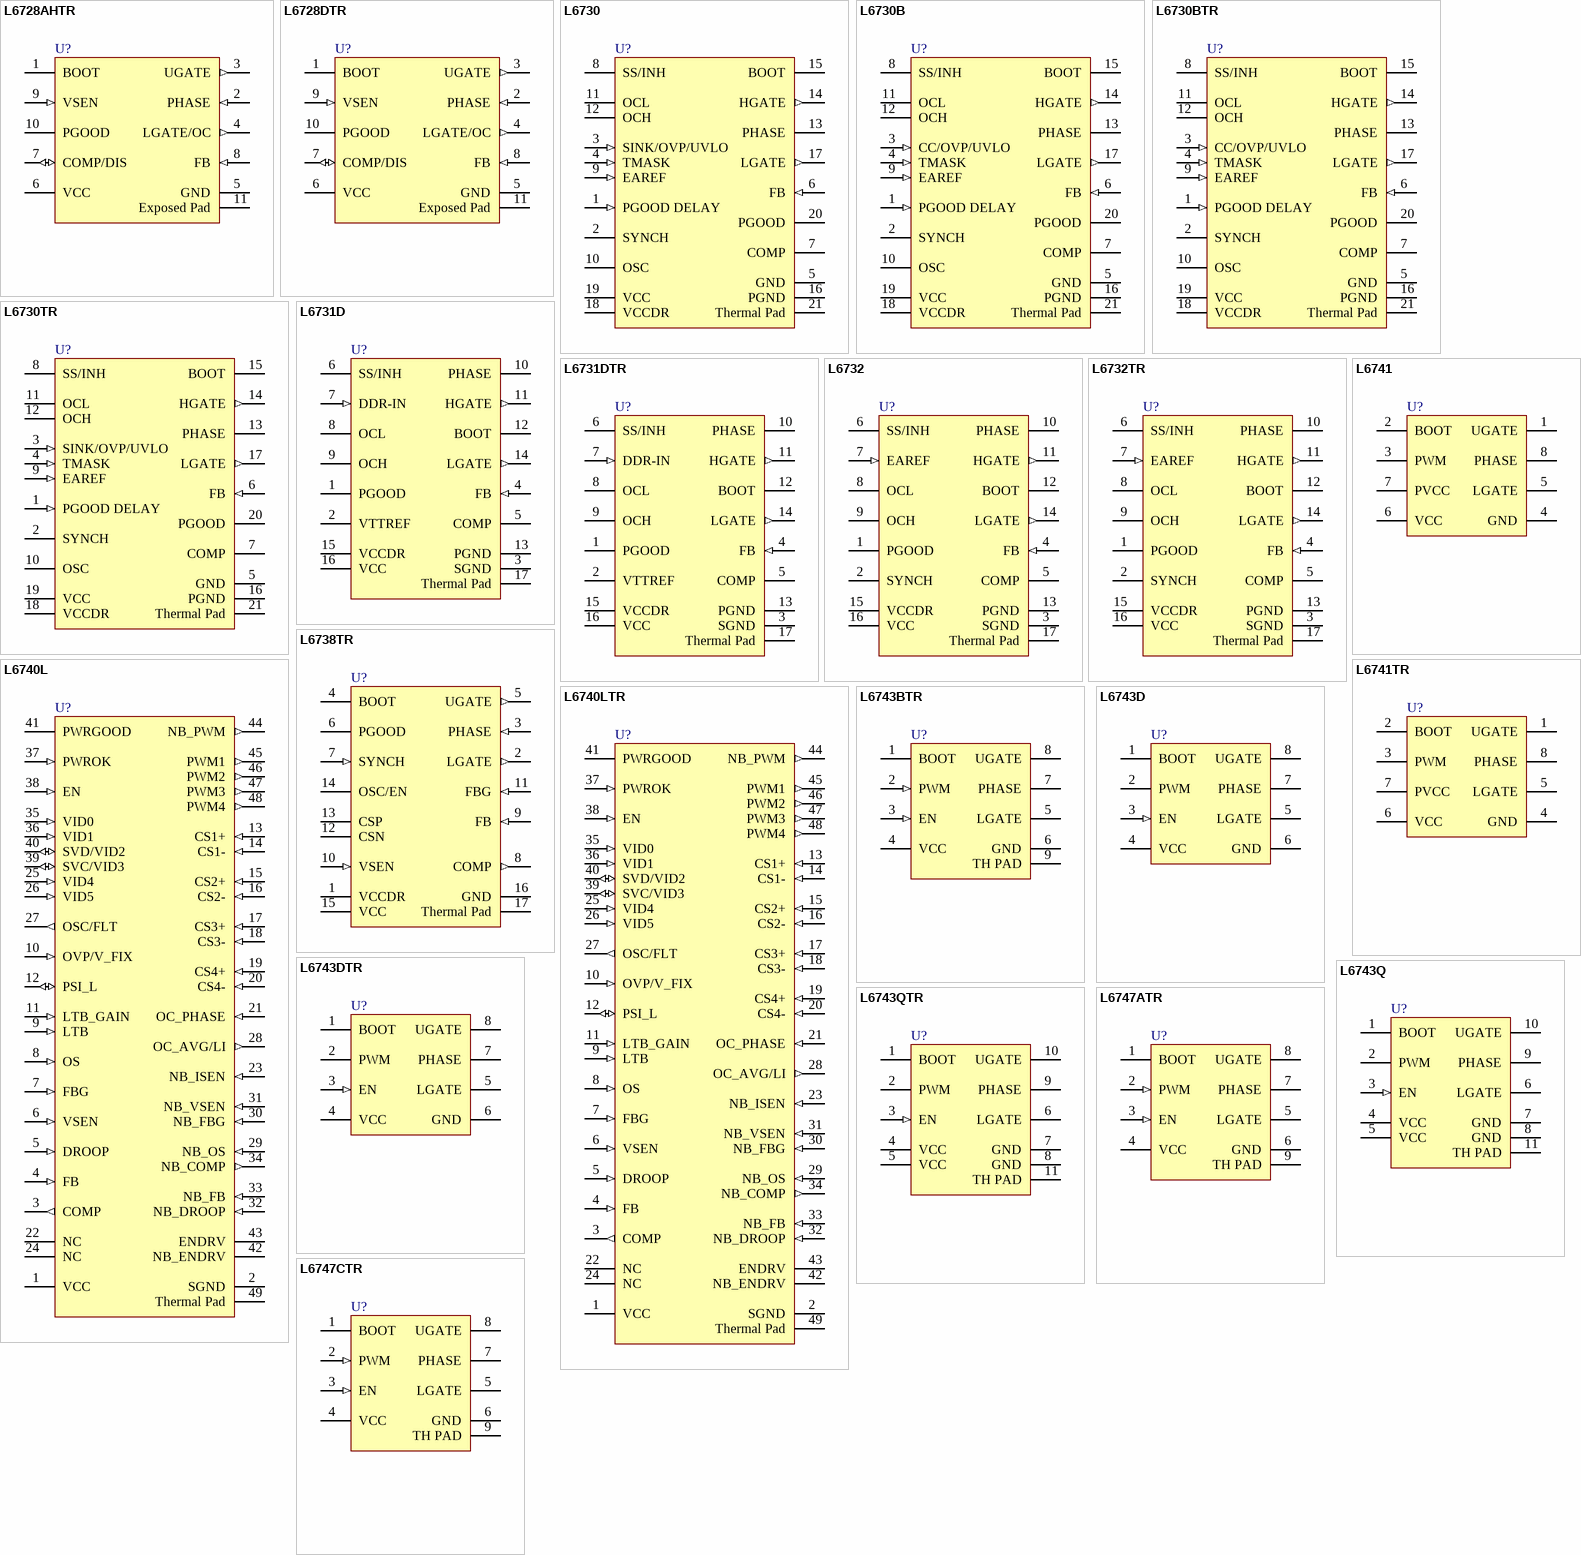
[diagram p3: symbols L6728AHTR to L6747CTR]

## L6728AHTR
designator U?
High frequency single phase PWM controller with Power Good, 10-Pin VFDFPN, Tape and Reel; DatasheetVersion: May-2009; PackageVersion: 2008; PackageReference: DFN10; PackageDescription: 10-Pin DFN, 3 x 3 x 1 mm Body, 0.5 mm Pitch, Exposed Pad; ComponentLink1Description: Manufacturer URL; ComponentLink1URL: http://www.st.com; ComponentLink2Description: Datasheet; ComponentLink2URL: http://www.st.com/internet/com/TECHNICAL_RESOURCES/TECHNICAL_LITERATURE/DATASHEET/CD00235573.pdf
footprint DFN10_N (SON, 10-Leads, Body 3x3mm, Pitch 0.5mm, Thermal Pad 2.25x1.65mm, IPC Medium Density)
footprint DFN10_L (SON, 10-Leads, Body 3x3mm, Pitch 0.5mm, Thermal Pad 2.25x1.65mm, IPC High Density)
footprint DFN10_M (SON, 10-Leads, Body 3x3mm, Pitch 0.5mm, Thermal Pad 2.25x1.65mm, IPC Low Density)
pins: 1 BOOT (power), 2 PHASE (in), 3 UGATE (out), 4 LGATE/OC (out), 5 GND (power), 6 VCC (power), 7 COMP/DIS (io), 8 FB (in), 9 VSEN (in), 10 PGOOD (oc), 11 Exposed Pad (power)

## L6728DTR
designator U?
Single phase PWM controller with Power Good, 10-Pin DFN, Tape and Reel; DatasheetVersion: Feb-2010; PackageVersion: 2008; PackageReference: DFN10; PackageDescription: 10-Pin DFN, 3 x 3 x 1 mm Body, 0.5 mm Pitch, Exposed Pad; ComponentLink1Description: Manufacturer URL; ComponentLink1URL: http://www.st.com; ComponentLink2Description: Datasheet; ComponentLink2URL: http://www.st.com/internet/com/TECHNICAL_RESOURCES/TECHNICAL_LITERATURE/DATASHEET/CD00252832.pdf
footprint DFN10_N (SON, 10-Leads, Body 3x3mm, Pitch 0.5mm, Thermal Pad 2.25x1.65mm, IPC Medium Density)
footprint DFN10_L (SON, 10-Leads, Body 3x3mm, Pitch 0.5mm, Thermal Pad 2.25x1.65mm, IPC High Density)
footprint DFN10_M (SON, 10-Leads, Body 3x3mm, Pitch 0.5mm, Thermal Pad 2.25x1.65mm, IPC Low Density)
pins: 1 BOOT (power), 2 PHASE (in), 3 UGATE (out), 4 LGATE/OC (out), 5 GND (power), 6 VCC (power), 7 COMP/DIS (io), 8 FB (in), 9 VSEN (in), 10 PGOOD (oc), 11 Exposed Pad (power)

## L6730
designator U?
Adjustable step-down controller with synchronous rectification, 20-Pin HTSSOP, Tube; DatasheetVersion: Dec-2009; PackageVersion: 2009; PackageReference: HTSSOP20; PackageDescription: 20-Pin Thin Small Outline Package 6.5 x 4.4 mm Body ,0.65 mm Pitch, 4.3 x 3.1 mm Exposed Pad; ComponentLink1Description: Manufacturer URL; ComponentLink1URL: http://www.st.com; ComponentLink2Description: Datasheet; ComponentLink2URL: http://www.st.com/internet/com/TECHNICAL_RESOURCES/TECHNICAL_LITERATURE/DATASHEET/CD00081319.pdf
footprint HTSSOP20_N (TSOP, 20-Leads, Body 6.5x4.4mm, Pitch 0.65mm, Thermal Pad 4.3x3.1mm, IPC Medium Density)
footprint HTSSOP20_L (TSOP, 20-Leads, Body 6.5x4.4mm, Pitch 0.65mm, Thermal Pad 4.3x3.1mm, IPC High Density)
footprint HTSSOP20_M (TSOP, 20-Leads, Body 6.5x4.4mm, Pitch 0.65mm, Thermal Pad 4.3x3.1mm, IPC Low Density)
pins: 1 PGOOD DELAY (in), 2 SYNCH, 3 SINK/OVP/UVLO (in), 4 TMASK (in), 5 GND (power), 6 FB (in), 7 COMP, 8 SS/INH, 9 EAREF (in), 10 OSC, 11 OCL, 12 OCH, 13 PHASE, 14 HGATE (out), 15 BOOT, 16 PGND (power), 17 LGATE (out), 18 VCCDR (power), 19 VCC (power), 20 PGOOD (oc), 21 Thermal Pad (power)

## L6730B
designator U?
Adjustable step-down controller with synchronous rectification, 20-Pin HTSSOP, Tube; DatasheetVersion: Dec-2009; PackageVersion: 2009; PackageReference: HTSSOP20; PackageDescription: 20-Pin Thin Small Outline Package 6.5 x 4.4 mm Body ,0.65 mm Pitch, 4.3 x 3.1 mm Exposed Pad; ComponentLink1Description: Manufacturer URL; ComponentLink1URL: http://www.st.com; ComponentLink2Description: Datasheet; ComponentLink2URL: http://www.st.com/internet/com/TECHNICAL_RESOURCES/TECHNICAL_LITERATURE/DATASHEET/CD00081319.pdf
footprint HTSSOP20_N (TSOP, 20-Leads, Body 6.5x4.4mm, Pitch 0.65mm, Thermal Pad 4.3x3.1mm, IPC Medium Density)
footprint HTSSOP20_L (TSOP, 20-Leads, Body 6.5x4.4mm, Pitch 0.65mm, Thermal Pad 4.3x3.1mm, IPC High Density)
footprint HTSSOP20_M (TSOP, 20-Leads, Body 6.5x4.4mm, Pitch 0.65mm, Thermal Pad 4.3x3.1mm, IPC Low Density)
pins: 1 PGOOD DELAY (in), 2 SYNCH, 3 CC/OVP/UVLO (in), 4 TMASK (in), 5 GND (power), 6 FB (in), 7 COMP, 8 SS/INH, 9 EAREF (in), 10 OSC, 11 OCL, 12 OCH, 13 PHASE, 14 HGATE (out), 15 BOOT, 16 PGND (power), 17 LGATE (out), 18 VCCDR (power), 19 VCC (power), 20 PGOOD (oc), 21 Thermal Pad (power)

## L6730BTR
designator U?
Adjustable step-down controller with synchronous rectification, 20-Pin HTSSOP, Tape and Reel; DatasheetVersion: Dec-2009; PackageVersion: 2009; PackageReference: HTSSOP20; PackageDescription: 20-Pin Thin Small Outline Package 6.5 x 4.4 mm Body ,0.65 mm Pitch, 4.3 x 3.1 mm Exposed Pad; ComponentLink1Description: Manufacturer URL; ComponentLink1URL: http://www.st.com; ComponentLink2Description: Datasheet; ComponentLink2URL: http://www.st.com/internet/com/TECHNICAL_RESOURCES/TECHNICAL_LITERATURE/DATASHEET/CD00081319.pdf
footprint HTSSOP20_N (TSOP, 20-Leads, Body 6.5x4.4mm, Pitch 0.65mm, Thermal Pad 4.3x3.1mm, IPC Medium Density)
footprint HTSSOP20_L (TSOP, 20-Leads, Body 6.5x4.4mm, Pitch 0.65mm, Thermal Pad 4.3x3.1mm, IPC High Density)
footprint HTSSOP20_M (TSOP, 20-Leads, Body 6.5x4.4mm, Pitch 0.65mm, Thermal Pad 4.3x3.1mm, IPC Low Density)
pins: 1 PGOOD DELAY (in), 2 SYNCH, 3 CC/OVP/UVLO (in), 4 TMASK (in), 5 GND (power), 6 FB (in), 7 COMP, 8 SS/INH, 9 EAREF (in), 10 OSC, 11 OCL, 12 OCH, 13 PHASE, 14 HGATE (out), 15 BOOT, 16 PGND (power), 17 LGATE (out), 18 VCCDR (power), 19 VCC (power), 20 PGOOD (oc), 21 Thermal Pad (power)

## L6730TR
designator U?
Adjustable step-down controller with synchronous rectification, 20-Pin HTSSOP, Tape and Reel; DatasheetVersion: Dec-2009; PackageVersion: 2009; PackageReference: HTSSOP20; PackageDescription: 20-Pin Thin Small Outline Package 6.5 x 4.4 mm Body ,0.65 mm Pitch, 4.3 x 3.1 mm Exposed Pad; ComponentLink1Description: Manufacturer URL; ComponentLink1URL: http://www.st.com; ComponentLink2Description: Datasheet; ComponentLink2URL: http://www.st.com/internet/com/TECHNICAL_RESOURCES/TECHNICAL_LITERATURE/DATASHEET/CD00081319.pdf
footprint HTSSOP20_N (TSOP, 20-Leads, Body 6.5x4.4mm, Pitch 0.65mm, Thermal Pad 4.3x3.1mm, IPC Medium Density)
footprint HTSSOP20_L (TSOP, 20-Leads, Body 6.5x4.4mm, Pitch 0.65mm, Thermal Pad 4.3x3.1mm, IPC High Density)
footprint HTSSOP20_M (TSOP, 20-Leads, Body 6.5x4.4mm, Pitch 0.65mm, Thermal Pad 4.3x3.1mm, IPC Low Density)
pins: 1 PGOOD DELAY (in), 2 SYNCH, 3 SINK/OVP/UVLO (in), 4 TMASK (in), 5 GND (power), 6 FB (in), 7 COMP, 8 SS/INH, 9 EAREF (in), 10 OSC, 11 OCL, 12 OCH, 13 PHASE, 14 HGATE (out), 15 BOOT, 16 PGND (power), 17 LGATE (out), 18 VCCDR (power), 19 VCC (power), 20 PGOOD (oc), 21 Thermal Pad (power)

## L6731D
designator U?
Adjustable step-down controller with synchronous rectification dedicated to DDR memory, 16-Pin HTSSOP; DatasheetVersion: Jun-2008; PackageVersion: 2008; PackageReference: HTSSOP16; PackageDescription: 16-Pin Thin Small Outline Package 5 x 4.4 mm Body ,0.65 mm Pitch, 3 x 3 mm Exposed Pad; ComponentLink1Description: Manufacturer URL; ComponentLink1URL: http://www.st.com; ComponentLink2Description: Datasheet; ComponentLink2URL: http://www.st.com/internet/com/TECHNICAL_RESOURCES/TECHNICAL_LITERATURE/DATASHEET/CD00081317.pdf
footprint HTSSOP16_N (TSOP, 16-Leads, Body 5x4.4mm, Pitch 0.65mm, Thermal Pad 3x3mm, IPC Medium Density)
footprint HTSSOP16_L (TSOP, 16-Leads, Body 5x4.4mm, Pitch 0.65mm, Thermal Pad 3x3mm, IPC High Density)
footprint HTSSOP16_M (TSOP, 16-Leads, Body 5x4.4mm, Pitch 0.65mm, Thermal Pad 3x3mm, IPC Low Density)
pins: 1 PGOOD (oc), 2 VTTREF (power), 3 SGND (power), 4 FB (in), 5 COMP, 6 SS/INH, 7 DDR-IN (in), 8 OCL, 9 OCH, 10 PHASE, 11 HGATE (out), 12 BOOT, 13 PGND (power), 14 LGATE (out), 15 VCCDR (power), 16 VCC (power), 17 Thermal Pad

## L6731DTR
designator U?
Adjustable step-down controller with synchronous rectification dedicated to DDR memory, 16-Pin HTSSOP, Tape and Reel; DatasheetVersion: Jun-2008; PackageVersion: 2008; PackageReference: HTSSOP16; PackageDescription: 16-Pin Thin Small Outline Package 5 x 4.4 mm Body ,0.65 mm Pitch, 3 x 3 mm Exposed Pad; ComponentLink1Description: Manufacturer URL; ComponentLink1URL: http://www.st.com; ComponentLink2Description: Datasheet; ComponentLink2URL: http://www.st.com/internet/com/TECHNICAL_RESOURCES/TECHNICAL_LITERATURE/DATASHEET/CD00081317.pdf
footprint HTSSOP16_N (TSOP, 16-Leads, Body 5x4.4mm, Pitch 0.65mm, Thermal Pad 3x3mm, IPC Medium Density)
footprint HTSSOP16_L (TSOP, 16-Leads, Body 5x4.4mm, Pitch 0.65mm, Thermal Pad 3x3mm, IPC High Density)
footprint HTSSOP16_M (TSOP, 16-Leads, Body 5x4.4mm, Pitch 0.65mm, Thermal Pad 3x3mm, IPC Low Density)
pins: 1 PGOOD (oc), 2 VTTREF (power), 3 SGND (power), 4 FB (in), 5 COMP, 6 SS/INH, 7 DDR-IN (in), 8 OCL, 9 OCH, 10 PHASE, 11 HGATE (out), 12 BOOT, 13 PGND (power), 14 LGATE (out), 15 VCCDR (power), 16 VCC (power), 17 Thermal Pad

## L6732
designator U?
Adjustable step-down controller with synchronous rectification, 16-Pin HTSSOP; DatasheetVersion: Jun-2008; PackageVersion: 2008; PackageReference: HTSSOP16; PackageDescription: 16-Pin Thin Small Outline Package 5 x 4.4 mm Body ,0.65 mm Pitch, 3 x 3 mm Exposed Pad; ComponentLink1Description: Manufacturer URL; ComponentLink1URL: http://www.st.com; ComponentLink2Description: Datasheet; ComponentLink2URL: http://www.st.com/internet/com/TECHNICAL_RESOURCES/TECHNICAL_LITERATURE/DATASHEET/CD00081300.pdf
footprint HTSSOP16_N (TSOP, 16-Leads, Body 5x4.4mm, Pitch 0.65mm, Thermal Pad 3x3mm, IPC Medium Density)
footprint HTSSOP16_L (TSOP, 16-Leads, Body 5x4.4mm, Pitch 0.65mm, Thermal Pad 3x3mm, IPC High Density)
footprint HTSSOP16_M (TSOP, 16-Leads, Body 5x4.4mm, Pitch 0.65mm, Thermal Pad 3x3mm, IPC Low Density)
pins: 1 PGOOD (oc), 2 SYNCH, 3 SGND (power), 4 FB (in), 5 COMP, 6 SS/INH, 7 EAREF (in), 8 OCL, 9 OCH, 10 PHASE, 11 HGATE (out), 12 BOOT, 13 PGND (power), 14 LGATE (out), 15 VCCDR (power), 16 VCC (power), 17 Thermal Pad (power)

## L6732TR
designator U?
Adjustable step-down controller with synchronous rectification, 16-Pin HTSSOP, Tape and Reel; DatasheetVersion: Jun-2008; PackageVersion: 2008; PackageReference: HTSSOP16; PackageDescription: 16-Pin Thin Small Outline Package 5 x 4.4 mm Body ,0.65 mm Pitch, 3 x 3 mm Exposed Pad; ComponentLink1Description: Manufacturer URL; ComponentLink1URL: http://www.st.com; ComponentLink2Description: Datasheet; ComponentLink2URL: http://www.st.com/internet/com/TECHNICAL_RESOURCES/TECHNICAL_LITERATURE/DATASHEET/CD00081300.pdf
footprint HTSSOP16_N (TSOP, 16-Leads, Body 5x4.4mm, Pitch 0.65mm, Thermal Pad 3x3mm, IPC Medium Density)
footprint HTSSOP16_L (TSOP, 16-Leads, Body 5x4.4mm, Pitch 0.65mm, Thermal Pad 3x3mm, IPC High Density)
footprint HTSSOP16_M (TSOP, 16-Leads, Body 5x4.4mm, Pitch 0.65mm, Thermal Pad 3x3mm, IPC Low Density)
pins: 1 PGOOD (oc), 2 SYNCH, 3 SGND (power), 4 FB (in), 5 COMP, 6 SS/INH, 7 EAREF (in), 8 OCL, 9 OCH, 10 PHASE, 11 HGATE (out), 12 BOOT, 13 PGND (power), 14 LGATE (out), 15 VCCDR (power), 16 VCC (power), 17 Thermal Pad (power)

## L6738TR
designator U?
Single Phase PWM Controller with Light-Load Efficiency Optimization, 16-Pin VFQFPN, Tape and Reel; DatasheetVersion: Nov-2010; PackageVersion: 2011; PackageReference: VQFN16; PackageDescription: 16-Pin Quad Flat No-Lead, 3 x 3 mm Body, 0.5 mm Pitch, Exposed Pad; ComponentLink1Description: Manufacturer URL; ComponentLink1URL: http://www.st.com; ComponentLink2Description: Datasheet; ComponentLink2URL: http://www.st.com/internet/com/TECHNICAL_RESOURCES/TECHNICAL_LITERATURE/DATASHEET/CD00288721.pdf
footprint VQFN16_N (QFN, 16-Leads, Body 3x3mm, Pitch 0.5mm, Thermal Pad 1.6x1.6mm, IPC Medium Density)
footprint VQFN16_L (QFN, 16-Leads, Body 3x3mm, Pitch 0.5mm, Thermal Pad 1.6x1.6mm, IPC High Density)
footprint VQFN16_M (QFN, 16-Leads, Body 3x3mm, Pitch 0.5mm, Thermal Pad 1.6x1.6mm, IPC Low Density)
pins: 1 VCCDR (power), 2 LGATE (out), 3 PHASE (in), 4 BOOT (power), 5 UGATE (out), 6 PGOOD (oc), 7 SYNCH (in), 8 COMP (out), 9 FB (in), 10 VSEN (in), 11 FBG (in), 12 CSN, 13 CSP, 14 OSC/EN, 15 VCC (power), 16 GND (power), 17 Thermal Pad (power)

## L6740L
designator U?
Hybrid controller (4+1) for AMD SVID and PVID processors, 48-Pin VFQFPN, Tray; DatasheetVersion: Sep-2008; PackageVersion: 2008; PackageReference: TQFP48-EP; PackageDescription: 48-Pin Thin Quad Flat Pack, 7 x 7 mm Body, 0.5 mm Pitch, 3.5 x 3.5 mm Exposed Pad; ComponentLink1Description: Manufacturer URL; ComponentLink1URL: http://www.st.com; ComponentLink2Description: Datasheet; ComponentLink2URL: http://www.st.com/internet/com/TECHNICAL_RESOURCES/TECHNICAL_LITERATURE/DATASHEET/CD00162276.pdf
footprint TQFP48-EP_N (Thin QFP, 48-Leads, Body 7x7mm, Pitch 0.5mm, Thermal Pad 3.5x3.5mm, IPC Medium Density)
footprint TQFP48-EP_L (Thin QFP, 48-Leads, Body 7x7mm, Pitch 0.5mm, Thermal Pad 3.5x3.5mm, IPC High Density)
footprint TQFP48-EP_M (Thin QFP, 48-Leads, Body 7x7mm, Pitch 0.5mm, Thermal Pad 3.5x3.5mm, IPC Low Density)
pins: 1 VCC (power), 2 SGND (power), 3 COMP (out), 4 FB (in), 5 DROOP (in), 6 VSEN (in), 7 FBG (in), 8 OS (in), 9 LTB (in), 10 OVP/V_FIX (in), 11 LTB_GAIN (in), 12 PSI_L (io), 13 CS1+ (in), 14 CS1- (in), 15 CS2+ (in), 16 CS2- (in), 17 CS3+ (in), 18 CS3- (in), 19 CS4+ (in), 20 CS4- (in), 21 OC_PHASE (in), 22 NC, 23 NB_ISEN (in), 24 NC, 25 VID4 (in), 26 VID5 (in), 27 OSC/FLT (out), 28 OC_AVG/LI (out), 29 NB_OS (in), 30 NB_FBG (in), 31 NB_VSEN (in), 32 NB_DROOP (in), 33 NB_FB (in), 34 NB_COMP (out), 35 VID0 (in), 36 VID1 (in), 37 PWROK (in), 38 EN (in), 39 SVC/VID3 (io), 40 SVD/VID2 (io), 41 PWRGOOD (oc), 42 NB_ENDRV (oc), 43 ENDRV (oc), 44 NB_PWM (out), 45 PWM1 (out), 46 PWM2 (out), 47 PWM3 (out), 48 PWM4 (out), 49 Thermal Pad (power)

## L6740LTR
designator U?
Hybrid controller (4+1) for AMD SVID and PVID processors, 48-Pin VFQFPN, Tape and Reel; DatasheetVersion: Sep-2008; PackageVersion: 2008; PackageReference: TQFP48-EP; PackageDescription: 48-Pin Thin Quad Flat Pack, 7 x 7 mm Body, 0.5 mm Pitch, 3.5 x 3.5 mm Exposed Pad; ComponentLink1Description: Manufacturer URL; ComponentLink1URL: http://www.st.com; ComponentLink2Description: Datasheet; ComponentLink2URL: http://www.st.com/internet/com/TECHNICAL_RESOURCES/TECHNICAL_LITERATURE/DATASHEET/CD00162276.pdf
footprint TQFP48-EP_N (Thin QFP, 48-Leads, Body 7x7mm, Pitch 0.5mm, Thermal Pad 3.5x3.5mm, IPC Medium Density)
footprint TQFP48-EP_L (Thin QFP, 48-Leads, Body 7x7mm, Pitch 0.5mm, Thermal Pad 3.5x3.5mm, IPC High Density)
footprint TQFP48-EP_M (Thin QFP, 48-Leads, Body 7x7mm, Pitch 0.5mm, Thermal Pad 3.5x3.5mm, IPC Low Density)
pins: 1 VCC (power), 2 SGND (power), 3 COMP (out), 4 FB (in), 5 DROOP (in), 6 VSEN (in), 7 FBG (in), 8 OS (in), 9 LTB (in), 10 OVP/V_FIX (in), 11 LTB_GAIN (in), 12 PSI_L (io), 13 CS1+ (in), 14 CS1- (in), 15 CS2+ (in), 16 CS2- (in), 17 CS3+ (in), 18 CS3- (in), 19 CS4+ (in), 20 CS4- (in), 21 OC_PHASE (in), 22 NC, 23 NB_ISEN (in), 24 NC, 25 VID4 (in), 26 VID5 (in), 27 OSC/FLT (out), 28 OC_AVG/LI (out), 29 NB_OS (in), 30 NB_FBG (in), 31 NB_VSEN (in), 32 NB_DROOP (in), 33 NB_FB (in), 34 NB_COMP (out), 35 VID0 (in), 36 VID1 (in), 37 PWROK (in), 38 EN (in), 39 SVC/VID3 (io), 40 SVD/VID2 (io), 41 PWRGOOD (oc), 42 NB_ENDRV (oc), 43 ENDRV (oc), 44 NB_PWM (out), 45 PWM1 (out), 46 PWM2 (out), 47 PWM3 (out), 48 PWM4 (out), 49 Thermal Pad (power)

## L6741
designator U?
High current MOSFET driver, 8-Pin SO; DatasheetVersion: Aug-2007; PackageVersion: Dec-2002; PackageReference: SO8; PackageDescription: 8-Pin Small Outline Integrated Circuit 1.27 mm Pitch; Code_JEDEC: MS-012-AA; Code_IPC: SOIC127P600-8; ComponentLink1Description: Manufacturer URL; ComponentLink1URL: http://www.st.com; ComponentLink2Description: Datasheet; ComponentLink2URL: http://www.st.com/internet/com/TECHNICAL_RESOURCES/TECHNICAL_LITERATURE/DATASHEET/CD00168745.pdf; ComponentLink3Description: Package Specification; ComponentLink3URL: http://www.st.com/internet/com/TECHNICAL_RESOURCES/TECHNICAL_LITERATURE/PACKAGE_INFORMATION/CD00004680.pdf
footprint SO8_N (SOIC, 8-Leads, Body 4.9x3.9mm, Pitch 1.27mm, IPC Medium Density)
footprint SO8_L (SOIC, 8-Leads, Body 4.9x3.9mm, Pitch 1.27mm, IPC High Density)
footprint SO8_M (SOIC, 8-Leads, Body 4.9x3.9mm, Pitch 1.27mm, IPC Low Density)
pins: 1 UGATE (hiz), 2 BOOT (power), 3 PWM, 4 GND (power), 5 LGATE (hiz), 6 VCC (power), 7 PVCC (power), 8 PHASE

## L6741TR
designator U?
High current MOSFET driver, 8-Pin SO, Tape and Reel; DatasheetVersion: Aug-2007; PackageVersion: Dec-2002; PackageReference: SO8; PackageDescription: 8-Pin Small Outline Integrated Circuit 1.27 mm Pitch; Code_JEDEC: MS-012-AA; Code_IPC: SOIC127P600-8; ComponentLink1Description: Manufacturer URL; ComponentLink1URL: http://www.st.com; ComponentLink2Description: Datasheet; ComponentLink2URL: http://www.st.com/internet/com/TECHNICAL_RESOURCES/TECHNICAL_LITERATURE/DATASHEET/CD00168745.pdf; ComponentLink3Description: Package Specification; ComponentLink3URL: http://www.st.com/internet/com/TECHNICAL_RESOURCES/TECHNICAL_LITERATURE/PACKAGE_INFORMATION/CD00004680.pdf
footprint SO8_N (SOIC, 8-Leads, Body 4.9x3.9mm, Pitch 1.27mm, IPC Medium Density)
footprint SO8_L (SOIC, 8-Leads, Body 4.9x3.9mm, Pitch 1.27mm, IPC High Density)
footprint SO8_M (SOIC, 8-Leads, Body 4.9x3.9mm, Pitch 1.27mm, IPC Low Density)
pins: 1 UGATE (hiz), 2 BOOT (power), 3 PWM, 4 GND (power), 5 LGATE (hiz), 6 VCC (power), 7 PVCC (power), 8 PHASE

## L6743BTR
designator U?
High current MOSFET driver, 8-Pin VFDFPN, Tape and Reel; DatasheetVersion: Jun-2008; PackageVersion: 2008; PackageReference: VFDFPN8; PackageDescription: 8-Pin VFDFPN, 3 x 3 x 1 mm Body, 0.5 mm Pitch, Exposed Pad; ComponentLink1Description: Manufacturer URL; ComponentLink1URL: http://www.st.com; ComponentLink2Description: Datasheet; ComponentLink2URL: http://www.st.com/internet/com/TECHNICAL_RESOURCES/TECHNICAL_LITERATURE/DATASHEET/CD00201328.pdf
footprint VFDFPN8_N (SON, 8-Leads, Body 3x3mm, Pitch 0.5mm, Thermal Pad 2.45x1.6mm, IPC Medium Density)
footprint VFDFPN8_L (SON, 8-Leads, Body 3x3mm, Pitch 0.5mm, Thermal Pad 2.45x1.6mm, IPC High Density)
footprint VFDFPN8_M (SON, 8-Leads, Body 3x3mm, Pitch 0.5mm, Thermal Pad 2.45x1.6mm, IPC Low Density)
pins: 1 BOOT (power), 2 PWM (in), 3 EN (in), 4 VCC (power), 5 LGATE (hiz), 6 GND (power), 7 PHASE, 8 UGATE (hiz), 9 TH PAD (power)

## L6743D
designator U?
High current MOSFET driver, 8-Pin SO; DatasheetVersion: Dec-2008; PackageVersion: Dec-2002; PackageReference: SO8; PackageDescription: 8-Pin Small Outline Integrated Circuit 1.27 mm Pitch; Code_JEDEC: MS-012-AA; Code_IPC: SOIC127P600-8; ComponentLink1Description: Manufacturer URL; ComponentLink1URL: http://www.st.com; ComponentLink2Description: Datasheet; ComponentLink2URL: http://www.st.com/internet/com/TECHNICAL_RESOURCES/TECHNICAL_LITERATURE/DATASHEET/CD00219563.pdf; ComponentLink3Description: Package Specification; ComponentLink3URL: http://www.st.com/internet/com/TECHNICAL_RESOURCES/TECHNICAL_LITERATURE/PACKAGE_INFORMATION/CD00004680.pdf
footprint SO8_N (SOIC, 8-Leads, Body 4.9x3.9mm, Pitch 1.27mm, IPC Medium Density)
footprint SO8_L (SOIC, 8-Leads, Body 4.9x3.9mm, Pitch 1.27mm, IPC High Density)
footprint SO8_M (SOIC, 8-Leads, Body 4.9x3.9mm, Pitch 1.27mm, IPC Low Density)
pins: 1 BOOT (power), 2 PWM, 3 EN (in), 4 VCC (power), 5 LGATE (hiz), 6 GND (power), 7 PHASE, 8 UGATE (hiz)

## L6743DTR
designator U?
High current MOSFET driver, 8-Pin SO, Tape and Reel; DatasheetVersion: Dec-2008; PackageVersion: Dec-2002; PackageReference: SO8; PackageDescription: 8-Pin Small Outline Integrated Circuit 1.27 mm Pitch; Code_JEDEC: MS-012-AA; Code_IPC: SOIC127P600-8; ComponentLink1Description: Manufacturer URL; ComponentLink1URL: http://www.st.com; ComponentLink2Description: Datasheet; ComponentLink2URL: http://www.st.com/internet/com/TECHNICAL_RESOURCES/TECHNICAL_LITERATURE/DATASHEET/CD00219563.pdf; ComponentLink3Description: Package Specification; ComponentLink3URL: http://www.st.com/internet/com/TECHNICAL_RESOURCES/TECHNICAL_LITERATURE/PACKAGE_INFORMATION/CD00004680.pdf
footprint SO8_N (SOIC, 8-Leads, Body 4.9x3.9mm, Pitch 1.27mm, IPC Medium Density)
footprint SO8_L (SOIC, 8-Leads, Body 4.9x3.9mm, Pitch 1.27mm, IPC High Density)
footprint SO8_M (SOIC, 8-Leads, Body 4.9x3.9mm, Pitch 1.27mm, IPC Low Density)
pins: 1 BOOT (power), 2 PWM, 3 EN (in), 4 VCC (power), 5 LGATE (hiz), 6 GND (power), 7 PHASE, 8 UGATE (hiz)

## L6743Q
designator U?
High current MOSFET driver, 10-Pin DFN, Tube; DatasheetVersion: Jun-2008; PackageVersion: 2008; PackageReference: DFN10; PackageDescription: 10-Pin DFN, 3 x 3 x 1 mm Body, 0.5 mm Pitch, Exposed Pad; ComponentLink1Description: Manufacturer URL; ComponentLink1URL: http://www.st.com; ComponentLink2Description: Datasheet; ComponentLink2URL: http://www.st.com/internet/com/TECHNICAL_RESOURCES/TECHNICAL_LITERATURE/DATASHEET/CD00168777.pdf
footprint DFN10_N (SON, 10-Leads, Body 3x3mm, Pitch 0.5mm, Thermal Pad 2.25x1.65mm, IPC Medium Density)
footprint DFN10_L (SON, 10-Leads, Body 3x3mm, Pitch 0.5mm, Thermal Pad 2.25x1.65mm, IPC High Density)
footprint DFN10_M (SON, 10-Leads, Body 3x3mm, Pitch 0.5mm, Thermal Pad 2.25x1.65mm, IPC Low Density)
pins: 1 BOOT (power), 2 PWM, 3 EN (in), 4 VCC (power), 5 VCC (power), 6 LGATE (hiz), 7 GND (power), 8 GND (power), 9 PHASE, 10 UGATE (hiz), 11 TH PAD (power)

## L6743QTR
designator U?
High current MOSFET driver, 10-Pin DFN, Tape and Reel; DatasheetVersion: Jun-2008; PackageVersion: 2008; PackageReference: DFN10; PackageDescription: 10-Pin DFN, 3 x 3 x 1 mm Body, 0.5 mm Pitch, Exposed Pad; ComponentLink1Description: Manufacturer URL; ComponentLink1URL: http://www.st.com; ComponentLink2Description: Datasheet; ComponentLink2URL: http://www.st.com/internet/com/TECHNICAL_RESOURCES/TECHNICAL_LITERATURE/DATASHEET/CD00168777.pdf
footprint DFN10_N (SON, 10-Leads, Body 3x3mm, Pitch 0.5mm, Thermal Pad 2.25x1.65mm, IPC Medium Density)
footprint DFN10_L (SON, 10-Leads, Body 3x3mm, Pitch 0.5mm, Thermal Pad 2.25x1.65mm, IPC High Density)
footprint DFN10_M (SON, 10-Leads, Body 3x3mm, Pitch 0.5mm, Thermal Pad 2.25x1.65mm, IPC Low Density)
pins: 1 BOOT (power), 2 PWM, 3 EN (in), 4 VCC (power), 5 VCC (power), 6 LGATE (hiz), 7 GND (power), 8 GND (power), 9 PHASE, 10 UGATE (hiz), 11 TH PAD (power)

## L6747ATR
designator U?
High current MOSFET driver, 8-Pin VFDFPN, Tape and Reel; DatasheetVersion: Mar-2010; PackageVersion: 2008; PackageReference: VFDFPN8; PackageDescription: 8-Pin VFDFPN, 3 x 3 x 1 mm Body, 0.5 mm Pitch, Exposed Pad; ComponentLink1Description: Manufacturer URL; ComponentLink1URL: http://www.st.com; ComponentLink2Description: Datasheet; ComponentLink2URL: http://www.st.com/internet/com/TECHNICAL_RESOURCES/TECHNICAL_LITERATURE/DATASHEET/CD00265196.pdf
footprint VFDFPN8_N (SON, 8-Leads, Body 3x3mm, Pitch 0.5mm, Thermal Pad 2.45x1.6mm, IPC Medium Density)
footprint VFDFPN8_L (SON, 8-Leads, Body 3x3mm, Pitch 0.5mm, Thermal Pad 2.45x1.6mm, IPC High Density)
footprint VFDFPN8_M (SON, 8-Leads, Body 3x3mm, Pitch 0.5mm, Thermal Pad 2.45x1.6mm, IPC Low Density)
pins: 1 BOOT (power), 2 PWM (in), 3 EN (in), 4 VCC (power), 5 LGATE (hiz), 6 GND (power), 7 PHASE, 8 UGATE (hiz), 9 TH PAD (power)